# EAGLE library part BQ25180YBGR (library BQ25180YBGR)
Charger IC Lithium Ion/Polymer, Lithium Iron Phosphate 8-DSBGA (1.6x1.1) Source: Datasheet <https://www.ti.com/lit/ds/symlink/bq25180.pdf?ts=1650264094470&ref_url=https%3A%2F%2Fwww.ti.com%2Fproduct%2FBQ25180>
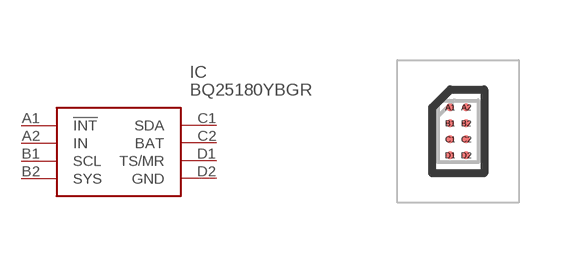
[diagram p0: symbol with the pads of BGA8C40P2X4_100X155X50; footprint BGA8C40P2X4_100X155X50]

Designator prefix IC

## BQ25180YBGR (Description: Charger IC Lithium Ion/Polymer, Lithium Iron Phosphate 8-DSBGA (1.6x1.1); Height: 0.5mm; Manufacturer_Name: Texas Instruments; Manufacturer_Part_Number: BQ25180YBGR; Mouser_Part_Number: 595-BQ25180YBGR; Mouser_Price-Stock: https://www.mouser.co.uk/ProductDetail/Texas-Instruments/BQ25180YBGR?qs=doiCPypUmgEWjAK%252BJAX6Tw%3D%3D)  [BGA8C40P2X4_100X155X50]
A1  !INT
A2  IN
B1  SCL
B2  SYS
C1  SDA
C2  BAT
D1  TS/MR
D2  GND

## Footprint BGA8C40P2X4_100X155X50 (pad centres in mm)
YBG0008
smd 0.2 x 0.2: A1 -0.2,0.6; A2 0.2,0.6; B1 -0.2,0.2; B2 0.2,0.2; C1 -0.2,-0.2; C2 0.2,-0.2; D1 -0.2,-0.6; D2 0.2,-0.6